# Altium schematic symbol library Schlib1.SchLib: 9 symbols
Pins are listed as number, name and electrical type; pins without a type are passive.

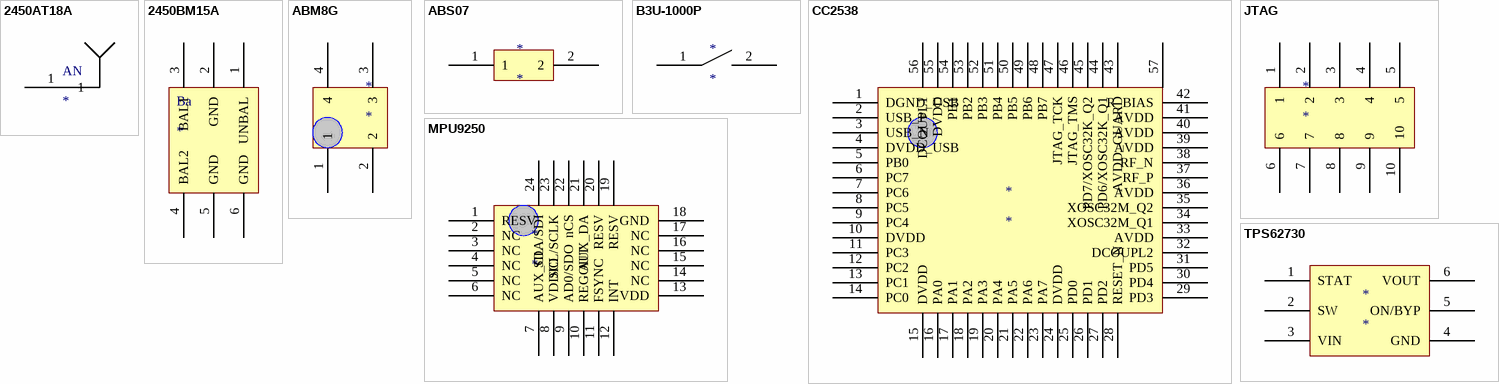
[diagram p0: symbols 2450AT18A to TPS62730]

## 2450AT18A
designator AN
2.4Ghz Ceramic Antenna
footprint 2450AT
pins: 1

## 2450BM15A
designator Ba
2.4GHz Balun
footprint 2450BM15A
pins: 1 UNBAL, 2 GND, 3 BAL1, 4 BAL2, 5 GND, 6 GND

## ABM8G
designator *
32MH Xtal
footprint ABM8G
pins: 1, 2, 3, 4

## ABS07
designator *
32kHz Xtal
footprint 32K Xtal
pins: 1, 2

## B3U-1000P
designator *
footprint B3U-1000P
pins: 1, 2

## CC2538
designator *
56-VFQFN
footprint 56-VFQFN (Footprint not found)
footprint QFN127P600-8N
footprint RTQ56_6P7X6P7
pins: 1 DGND_USB, 2 USB_P, 3 USB_N, 4 DVDD_USB, 5 PB0, 6 PC7, 7 PC6, 8 PC5, 9 PC4, 10 DVDD, 11 PC3, 12 PC2, 13 PC1, 14 PC0, 15 DVDD, 16 PA0, 17 PA1, 18 PA2, 19 PA3, 20 PA4, 21 PA5, 22 PA6, 23 PA7, 24 DVDD, 25 PD0, 26 PD1, 27 PD2, 28 RESET_N, 29 PD3, 30 PD4, 31 PD5, 32 DCOUPL2, 33 AVDD, 34 XOSC32M_Q1, 35 XOSC32M_Q2, 36 AVDD, 37 RF_P, 38 RF_N, 39 AVDD, 40 AVDD, 41 AVDD, 42 R_BIAS, 43 AVDD_GUARD, 44 PD6/XOSC32K_Q1, 45 PD7/XOSC32K_Q2, 46 JTAG_TMS, 47 JTAG_TCK, 48 PB7, 49 PB6, 50 PB5, 51 PB4, 52 PB3, 53 PB2, 54 PB1, 55 DVDD, 56 DCOUPL1, 57 GNDPAD

## JTAG
designator *
footprint JTAG2x5
pins: 1, 2, 3, 4, 5, 6, 7, 8, 9, 10

## MPU9250
designator *
24-QFN
footprint QFN40P300X300X105-25N
pins: 1 RESV, 2 NC, 3 NC, 4 NC, 5 NC, 6 NC, 7 AUX_CL, 8 VDDIO, 9 AD0/SDO, 10 REGOUT, 11 FSYNC, 12 INT, 13 VDD, 14 NC, 15 NC, 16 NC, 17 NC, 18 GND, 19 RESV, 20 RESV, 21 AUX_DA, 22 nCS, 23 SCL/SCLK, 24 SDA/SDI

## TPS62730
designator *
footprint TPS62730
pins: 1 STAT, 2 SW, 3 VIN, 4 GND, 5 ON/BYP, 6 VOUT